# Altium schematic symbol library MCU_Lib.SchLib: 3 symbols
Pins are listed as number, name and electrical type; pins without a type are passive.

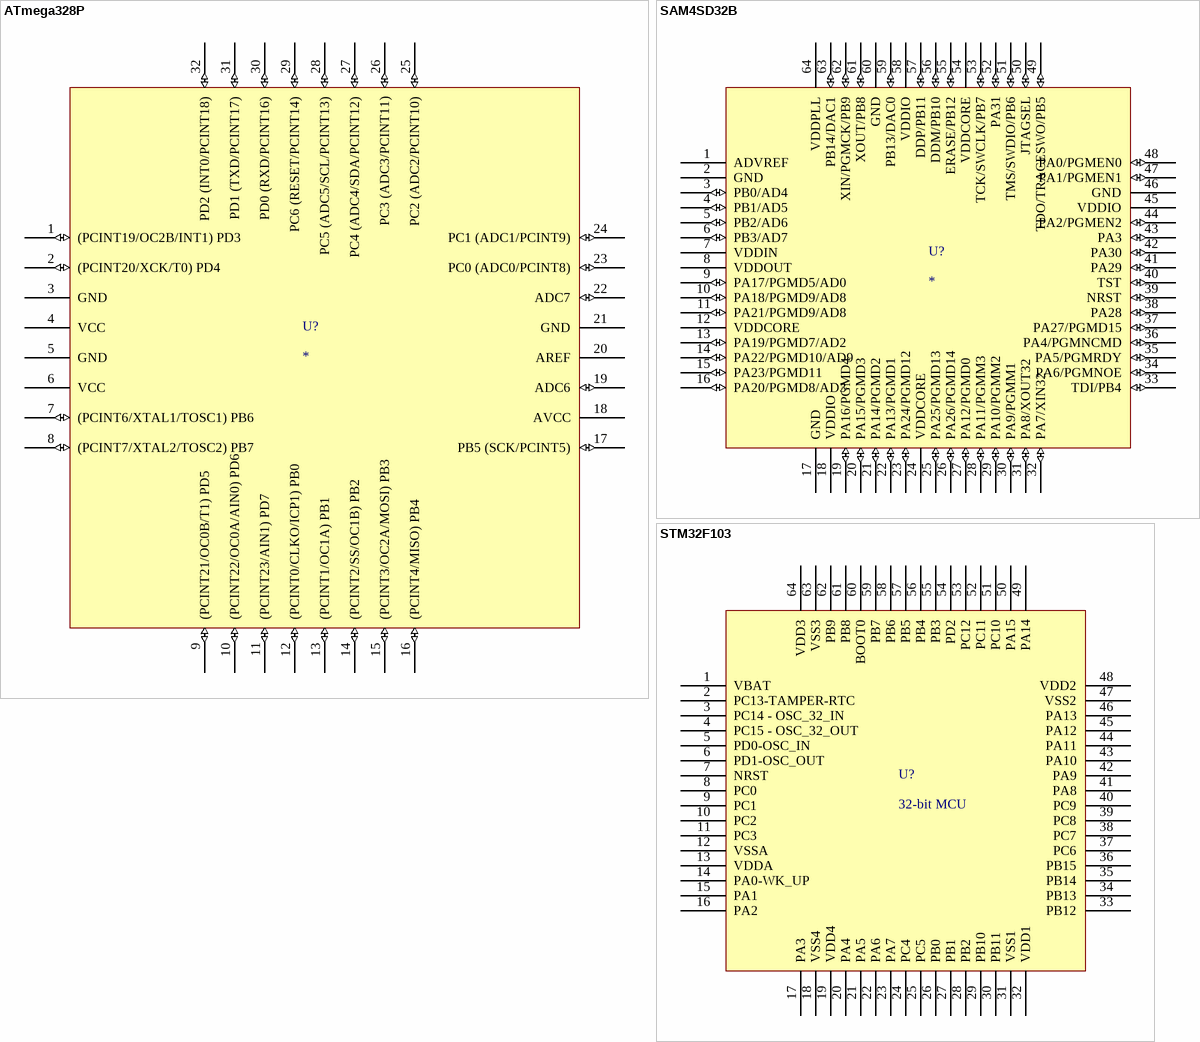
[diagram p0: symbols ATmega328P to STM32F103]

## ATmega328P
designator U?
pins: 1 (PCINT19/OC2B/INT1) PD3 (io), 2 (PCINT20/XCK/T0) PD4 (io), 3 GND (power), 4 VCC (power), 5 GND (power), 6 VCC (power), 7 (PCINT6/XTAL1/TOSC1) PB6 (io), 8 (PCINT7/XTAL2/TOSC2) PB7 (io), 9 (PCINT21/OC0B/T1) PD5 (io), 10 (PCINT22/OC0A/AIN0) PD6 (io), 11 (PCINT23/AIN1) PD7 (io), 12 (PCINT0/CLKO/ICP1) PB0 (io), 13 (PCINT1/OC1A) PB1 (io), 14 (PCINT2/SS/OC1B) PB2 (io), 15 (PCINT3/OC2A/MOSI) PB3 (io), 16 (PCINT4/MISO) PB4 (io), 17 PB5 (SCK/PCINT5) (io), 18 AVCC (power), 19 ADC6 (io), 20 AREF (power), 21 GND (power), 22 ADC7 (io), 23 PC0 (ADC0/PCINT8) (io), 24 PC1 (ADC1/PCINT9) (io), 25 PC2 (ADC2/PCINT10) (io), 26 PC3 (ADC3/PCINT11) (io), 27 PC4 (ADC4/SDA/PCINT12) (io), 28 PC5 (ADC5/SCL/PCINT13) (io), 29 PC6 (RESET/PCINT14) (io), 30 PD0 (RXD/PCINT16) (io), 31 PD1 (TXD/PCINT17) (io), 32 PD2 (INT0/PCINT18) (io)

## SAM4SD32B
designator U?
ComponentLink1Description: Datasheet; ComponentLink1URL: http://ww1.microchip.com/downloads/en/DeviceDoc/Atmel-11100-32-bit%20Cortex-M4-Microcontroller-SAM4S_Datasheet.pdf
footprint LQFP64_MCU_GENERIC
footprint TQFN-64PIN (TSQFP, 64-Leads, Body 10,00x10,00mm, Pitch 0,50mm, IPC Medium Density)
pins: 1 ADVREF (power), 2 GND (power), 3 PB0/AD4 (io), 4 PB1/AD5 (io), 5 PB2/AD6 (io), 6 PB3/AD7 (io), 7 VDDIN (power), 8 VDDOUT (power), 9 PA17/PGMD5/AD0 (io), 10 PA18/PGMD9/AD8 (io), 11 PA21/PGMD9/AD8 (io), 12 VDDCORE (power), 13 PA19/PGMD7/AD2 (io), 14 PA22/PGMD10/AD9 (io), 15 PA23/PGMD11 (io), 16 PA20/PGMD8/AD3 (io), 17 GND (power), 18 VDDIO (power), 19 PA16/PGMD4 (io), 20 PA15/PGMD3 (io), 21 PA14/PGMD2 (io), 22 PA13/PGMD1 (io), 23 PA24/PGMD12 (io), 24 VDDCORE (power), 25 PA25/PGMD13 (io), 26 PA26/PGMD14 (io), 27 PA12/PGMD0 (io), 28 PA11/PGMM3 (io), 29 PA10/PGMM2 (io), 30 PA9/PGMM1 (io), 31 PA8/XOUT32 (io) "XOUT32/PGMM0", 32 PA7/XIN32 (io) "XIN32/PGMNVALID", 33 TDI/PB4 (io), 34 PA6/PGMNOE (io), 35 PA5/PGMRDY (io), 36 PA4/PGMNCMD (io), 37 PA27/PGMD15 (io), 38 PA28 (io), 39 NRST (io), 40 TST (io), 41 PA29 (io), 42 PA30 (io), 43 PA3 (io), 44 PA2/PGMEN2 (io), 45 VDDIO (power), 46 GND (power), 47 PA1/PGMEN1 (io), 48 PA0/PGMEN0 (io), 49  TDO/TRACESWO/PB5 (io) "TDO/TRACESWO", 50 JTAGSEL (io), 51  TMS/SWDIO/PB6 (io) "TMS/SWDIO", 52 PA31 (io), 53 TCK/SWCLK/PB7 (io), 54 VDDCORE (power), 55 ERASE/PB12 (io), 56 DDM/PB10 (io), 57 DDP/PB11 (io), 58 VDDIO (power), 59 PB13/DAC0 (io), 60 GND (power), 61 XOUT/PB8 (io), 62 XIN/PGMCK/PB9 (io), 63 PB14/DAC1 (io), 64 VDDPLL (power)

## STM32F103
designator U?, comment 32-bit MCU
A ST Microchip that is Pin-to-Pin and software compatible with all ST32F103XX chips.; ComponentLink1Description: datasheet; ComponentLink1URL: https://www.st.com/resource/en/datasheet/cd00191185.pdf
footprint LQFP64_MCU_GENERIC
pins: 1 VBAT (power), 2 PC13-TAMPER-RTC, 3 PC14 - OSC_32_IN, 4 PC15 - OSC_32_OUT, 5 PD0-OSC_IN, 6 PD1-OSC_OUT, 7 NRST, 8 PC0, 9 PC1, 10 PC2, 11 PC3, 12 VSSA (power), 13 VDDA (power), 14 PA0-WK_UP, 15 PA1, 16 PA2, 17 PA3, 18 VSS4 (power), 19 VDD4 (power), 20 PA4, 21 PA5, 22 PA6, 23 PA7, 24 PC4, 25 PC5, 26 PB0, 27 PB1, 28 PB2, 29 PB10, 30 PB11, 31 VSS1, 32 VDD1, 33 PB12, 34 PB13, 35 PB14, 36 PB15, 37 PC6, 38 PC7, 39 PC8, 40 PC9, 41 PA8, 42 PA9, 43 PA10, 44 PA11, 45 PA12, 46 PA13, 47 VSS2 (power), 48 VDD2 (power), 49 PA14, 50 PA15, 51 PC10, 52 PC11, 53 PC12, 54 PD2, 55 PB3, 56 PB4, 57 PB5, 58 PB6, 59 PB7, 60 BOOT0, 61 PB8, 62 PB9, 63 VSS3 (power), 64 VDD3 (power)